# Altium footprint library CSD18532.PcbLib: 1 footprints
Each footprint in its own frame and in the unit in brackets; x right, y up, seen from the top. Pads: shape width x height; smd on the part's side, far side on the other; paste and mask are expansions set on the pad; w line width, h text height; cw(c..) or ccw(c..) is an arc to the next point about the centre after c.
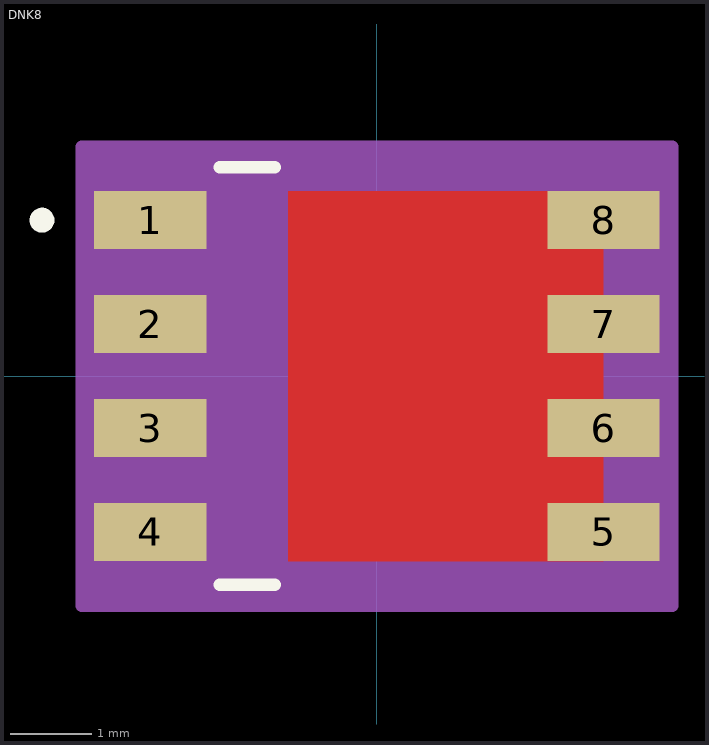
[diagram p0: the footprint, top view; thin cyan lines are the x and y axes]

## DNK8 [mm]
pads (8):
  rect 1.372x0.71 smd paste-0.673: 1(-2.77,1.905) 2(-2.77,0.635) 3(-2.77,-0.635) 4(-2.77,-1.905) 5(2.77,-1.905) 6(2.77,-0.635) 7(2.77,0.635) 8(2.77,1.905)
Top Layer:
  region: 2.765,-2.26 2.765,2.26 -1.085,2.26 -1.085,-2.26
  region: 2.765,-2.26 2.765,2.26 -1.085,2.26 -1.085,-2.26
Top Overlay:
  circle w0.152: c-4.091,1.905 r0.076
  lines w0.152: -1.921,-2.55 -1.248,-2.55 ; -1.921,2.55 -1.248,2.55
Top Paste:
  region: 0.605,1.196 0.605,1.942 1.899,1.942 1.899,1.196
  region: 0.605,1.196 0.605,1.942 1.899,1.942 1.899,1.196
  region: 0.605,-0.15 0.605,-0.896 1.899,-0.896 1.899,-0.15
  region: 3.355,2.159 2.185,2.159 2.185,1.651 3.355,1.651
  region: 3.355,0.889 2.185,0.889 2.185,0.381 3.355,0.381
  region: 3.355,-0.381 2.185,-0.381 2.185,-0.889 3.355,-0.889
  region: 3.355,-1.651 2.185,-1.651 2.185,-2.159 3.355,-2.159
  region: -2.185,-1.651 -3.355,-1.651 -3.355,-2.159 -2.185,-2.159
  region: -2.185,-0.381 -3.355,-0.381 -3.355,-0.889 -2.185,-0.889
  region: -2.185,0.889 -3.355,0.889 -3.355,0.381 -2.185,0.381
  region: -2.185,2.159 -3.355,2.159 -3.355,1.651 -2.185,1.651
  region: 0.605,1.196 0.605,1.942 1.899,1.942 1.899,1.196
  region: 0.605,-1.196 0.605,-1.942 1.899,-1.942 1.899,-1.196
  region: 0.605,0.15 0.605,0.896 1.899,0.896 1.899,0.15
  region: -1.039,1.196 -1.039,1.942 0.255,1.942 0.255,1.196
  region: -1.039,-1.196 -1.039,-1.942 0.255,-1.942 0.255,-1.196
  region: -1.039,0.15 -1.039,0.896 0.255,0.896 0.255,0.15
  region: -1.039,1.196 -1.039,1.942 0.255,1.942 0.255,1.196
  region: -1.039,-0.15 -1.039,-0.896 0.255,-0.896 0.255,-0.15
Top Solder:
  region: 2.765,-2.26 2.765,2.26 -1.085,2.26 -1.085,-2.26
  region: 3.456,2.26 2.084,2.26 2.084,1.55 3.456,1.55
  region: 3.456,0.99 2.084,0.99 2.084,0.28 3.456,0.28
  region: 3.456,-0.28 2.084,-0.28 2.084,-0.99 3.456,-0.99
  region: 3.456,-1.55 2.084,-1.55 2.084,-2.26 3.456,-2.26
  region: -2.084,-1.55 -3.456,-1.55 -3.456,-2.26 -2.084,-2.26
  region: -2.084,-0.28 -3.456,-0.28 -3.456,-0.99 -2.084,-0.99
  region: -2.084,0.99 -3.456,0.99 -3.456,0.28 -2.084,0.28
  region: -2.084,2.26 -3.456,2.26 -3.456,1.55 -2.084,1.55
Mechanical 13:
  circle w0: c-4.091,1.905 r0.076
  lines w0: -0.305,2.55 ccw(c0,2.55) 0.305,2.55
Mechanical 15:
  region: 3.609,-2.804 -3.609,-2.804 -3.609,2.804 3.609,2.804
  lines w0.152: -3.609,-2.804 3.609,-2.804 3.609,2.804 -3.609,2.804 -3.609,-2.804